# Altium footprint library CONN_TBLOCK_3P81.PcbLib: 55 footprints (part 3 of 4)
Each footprint in its own frame and in the unit in brackets; x right, y up, seen from the top. Pads: shape width x height; smd on the part's side, far side on the other; paste and mask are expansions set on the pad; w line width, h text height; cw(c..) or ccw(c..) is an arc to the next point about the centre after c.
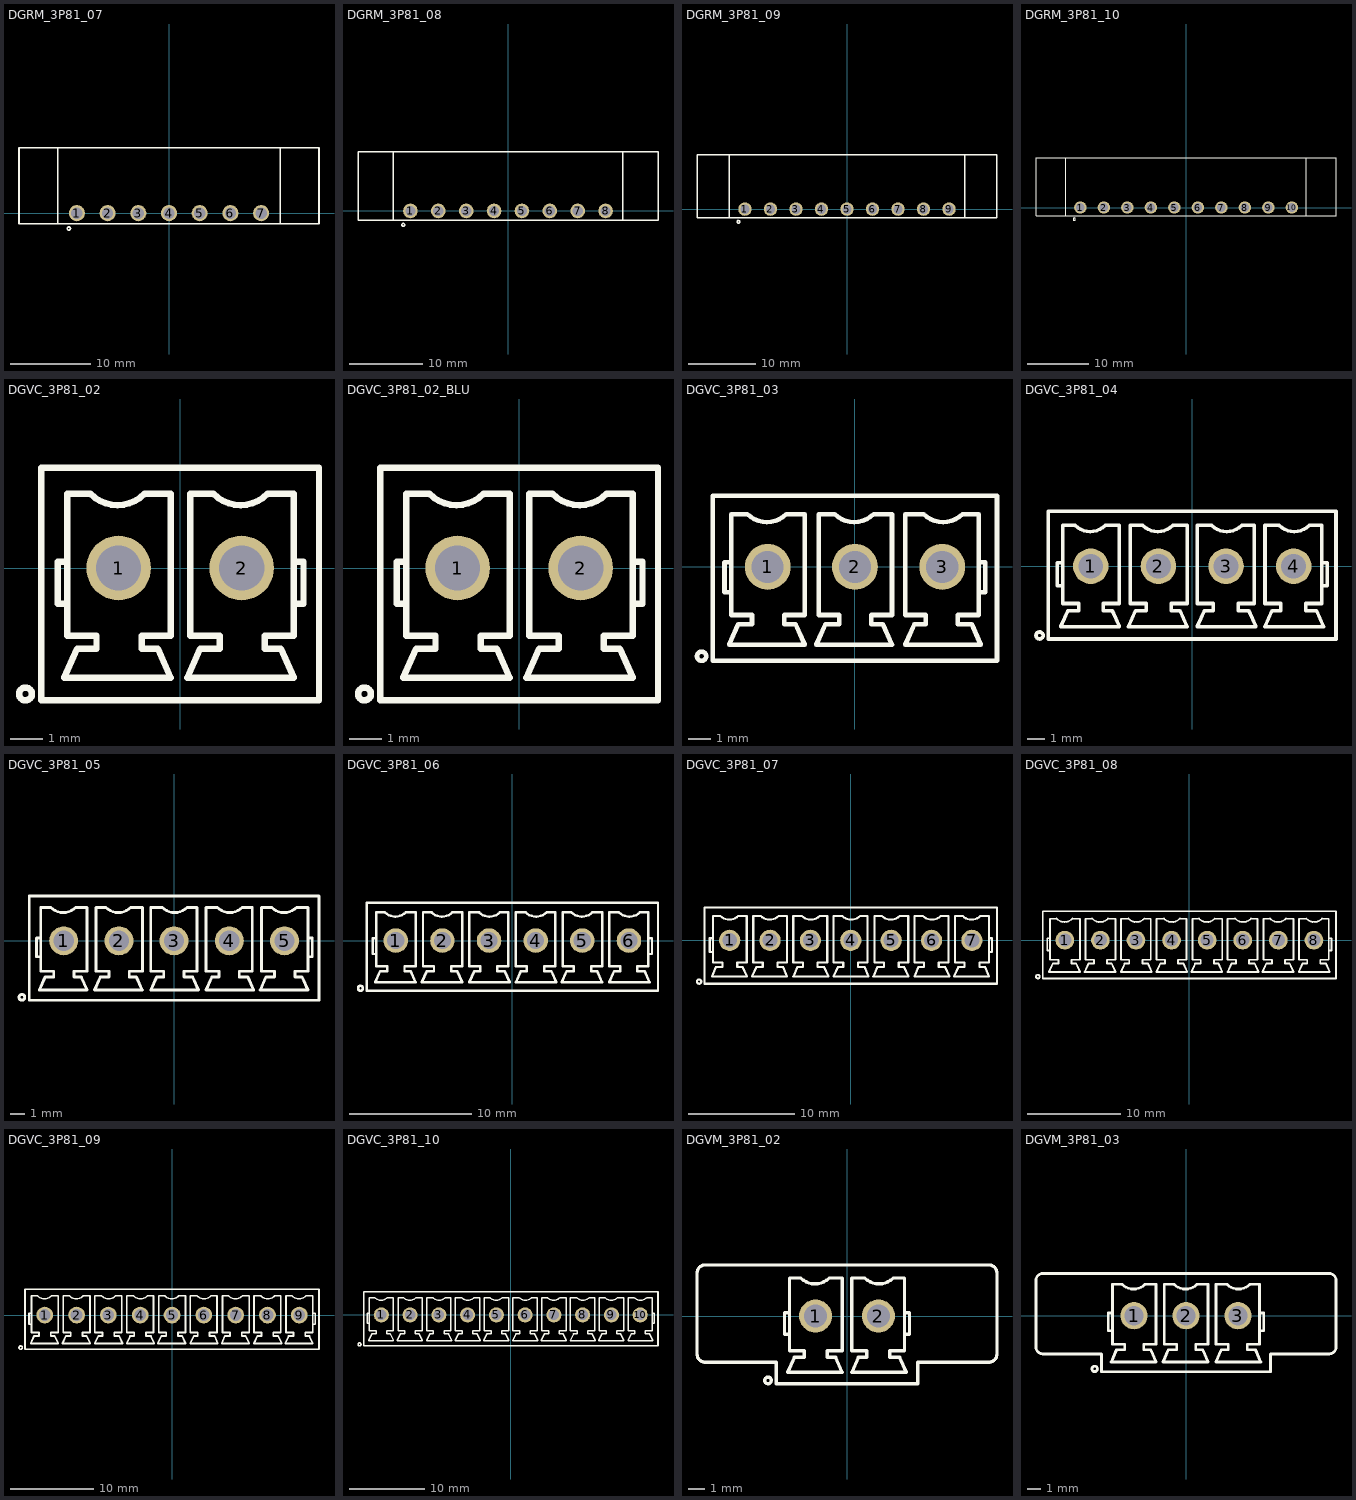
[diagram p2: the footprints below, top view; thin cyan lines are the x and y axes]

## DGRM_3P81_07 [mm] "Terminal Block, 3.81mm pitch, Right Angle, Screw fixed"
pads (7):
  round 2 / inner round 2 / far side oval 2.4x3 hole 1.4: 1(-11.43,0) 2(-7.62,0) 3(-3.81,0) 4(0,0) 5(3.81,0) 6(7.62,0) 7(11.43,0)
Top Overlay:
  circle w0.2: c-12.415,-1.9 r0.2
  lines w0.2: -13.8,-1.3 -13.8,8.1 ; 13.8,-1.3 13.8,8.1 ; -18.6,-1.3 18.6,-1.3 18.6,8.1 -18.6,8.1 -18.6,-1.3
3D body "TBP02R1W-381-07GR.step": height 7.7, standoff -3, extent -18.53,-1.2 18.53,8

## DGRM_3P81_08 [mm] "Terminal Block, 3.81mm pitch, Right Angle, Screw fixed"
pads (8):
  round 2 / inner round 2 / far side oval 2.4x3 hole 1.4: 1(-13.335,0) 2(-9.525,0) 3(-5.715,0) 4(-1.905,0) 5(1.905,0) 6(5.715,0) 7(9.525,0) 8(13.335,0)
Top Overlay:
  circle w0.2: c-14.32,-1.9 r0.2
  lines w0.2: -15.7,-1.3 -15.7,8.1 ; 15.7,-1.3 15.7,8.1 ; -20.5,-1.3 -20.5,8.1 20.5,8.1 20.5,-1.3 -20.5,-1.3
3D body "TBP02R1W-381-08GR.step": height 7.7, standoff -3, extent -20.435,-1.2 20.435,8

## DGRM_3P81_09 [mm] "Terminal Block, 3.81mm pitch, Right Angle, Screw fixed"
pads (9):
  round 2 / inner round 2 / far side oval 2.4x3 hole 1.4: 1(-15.24,0) 2(-11.43,0) 3(-7.62,0) 4(-3.81,0) 5(0,0) 6(3.81,0) 7(7.62,0) 8(11.43,0) 9(15.24,0)
Top Overlay:
  circle w0.2: c-16.225,-1.9 r0.2
  lines w0.2: -17.6,-1.3 -17.6,8.1 ; 17.6,-1.3 17.6,8.1 ; -22.4,-1.3 -22.4,8.1 22.4,8.1 22.4,-1.3 -22.4,-1.3
3D body "TBP02R1W-381-09GR.step": height 7.7, standoff -3, extent -22.34,-1.2 22.34,8

## DGRM_3P81_10 [mm] "Terminal Block, 3.81mm pitch, Right Angle, Screw fixed"
pads (10):
  round 2 / inner round 2 / far side oval 2.4x3 hole 1.4: 1(-17.145,0) 2(-13.335,0) 3(-9.525,0) 4(-5.715,0) 5(-1.905,0) 6(1.905,0) 7(5.715,0) 8(9.525,0) 9(13.335,0) 10(17.145,0)
Top Overlay:
  circle w0.2: c-18.13,-1.9 r0.2
  lines w0.2: -24.33,-1.3 -24.33,8.1 ; -24.3,-1.3 24.3,-1.3 24.3,8.1 -24.3,8.1 ; -19.5,-1.3 -19.5,8.1 ; 19.5,-1.3 19.5,8.1
3D body "TBP02R1W-381-10GR.step": height 7.7, standoff -3, extent -24.245,-1.2 24.245,8

## DGVC_3P81_02 [mm] "Terminal Block, 3.81mm pitch, Straight"
pads (2):
  round 2 / inner round 2 / far side oval 2.4x3 hole 1.4: 1(-1.905,0) 2(1.905,0)
Top Overlay:
  circle w0.2: c-4.79,-3.9 r0.2
  lines w0.2: -3.49,-1.1 -3.79,-1.1 -3.79,0.2 -3.49,0.2 ; 3.52,-1.1 3.82,-1.1 3.82,0.2 3.52,0.2 ; -4.3,-4.1 -4.3,3.1 4.3,3.1 4.3,-4.1 -4.3,-4.1 ; -3.59,-3.4 -3.19,-2.5 -2.59,-2.5 -2.59,-2.1 -3.49,-2.1 -3.49,2.3 -2.789,2.301 ccw(c-1.94,3.15) -1.091,2.301 -0.29,2.3 -0.29,-2.1 -1.19,-2.1 -1.19,-2.5 -0.69,-2.5 -0.29,-3.4 -3.59,-3.4 ; 0.22,-3.4 0.62,-2.5 1.22,-2.5 1.22,-2.1 0.32,-2.1 0.32,2.3 1.021,2.301 ccw(c1.87,3.15) 2.719,2.301 3.52,2.3 3.52,-2.1 2.62,-2.1 2.62,-2.5 3.12,-2.5 3.52,-3.4 0.22,-3.4
3D body "TBP02R2-381-02GR.step": height 9.3, standoff -3.4, extent -4.205,-4.2 4.205,3

## DGVC_3P81_02_BLU [mm] "Terminal Block, 3.81mm pitch, Straight, Blue"
pads (2):
  round 2 / inner round 2 / far side oval 2.4x3 hole 1.4: 1(-1.905,0) 2(1.905,0)
Top Overlay:
  circle w0.2: c-4.79,-3.9 r0.2
  lines w0.2: -3.49,-1.1 -3.79,-1.1 -3.79,0.2 -3.49,0.2 ; 3.52,-1.1 3.82,-1.1 3.82,0.2 3.52,0.2 ; -4.3,-4.1 -4.3,3.1 4.3,3.1 4.3,-4.1 -4.3,-4.1 ; -3.59,-3.4 -3.19,-2.5 -2.59,-2.5 -2.59,-2.1 -3.49,-2.1 -3.49,2.3 -2.789,2.301 ccw(c-1.94,3.15) -1.091,2.301 -0.29,2.3 -0.29,-2.1 -1.19,-2.1 -1.19,-2.5 -0.69,-2.5 -0.29,-3.4 -3.59,-3.4 ; 0.22,-3.4 0.62,-2.5 1.22,-2.5 1.22,-2.1 0.32,-2.1 0.32,2.3 1.021,2.301 ccw(c1.87,3.15) 2.719,2.301 3.52,2.3 3.52,-2.1 2.62,-2.1 2.62,-2.5 3.12,-2.5 3.52,-3.4 0.22,-3.4
3D body "TBP02R2-381-02BE.step": height 9.3, standoff -3.4, extent -4.205,-4.2 4.205,3

## DGVC_3P81_03 [mm] "Terminal Block, 3.81mm pitch, Straight"
pads (3):
  round 2 / inner round 2 / far side oval 2.4x3 hole 1.4: 1(-3.81,0) 2(0,0) 3(3.81,0)
Top Overlay:
  circle w0.2: c-6.695,-3.9 r0.2
  lines w0.2: -5.395,-1.1 -5.695,-1.1 -5.695,0.2 -5.395,0.2 ; 5.395,-1.1 5.695,-1.1 5.695,0.2 5.395,0.2 ; -6.2,-4.1 6.2,-4.1 6.2,3.1 -6.2,3.1 -6.2,-4.1 ; -5.495,-3.4 -2.195,-3.4 -2.595,-2.5 -3.095,-2.5 -3.095,-2.1 -2.195,-2.1 -2.195,2.3 -2.996,2.301 cw(c-3.845,3.15) -4.694,2.301 -5.395,2.3 -5.395,-2.1 -4.495,-2.1 -4.495,-2.5 -5.095,-2.5 -5.495,-3.4 ; -1.685,-3.4 1.615,-3.4 1.215,-2.5 0.715,-2.5 0.715,-2.1 1.615,-2.1 1.615,2.3 0.814,2.301 cw(c-0.035,3.15) -0.884,2.301 -1.585,2.3 -1.585,-2.1 -0.685,-2.1 -0.685,-2.5 -1.285,-2.5 -1.685,-3.4 ; 2.195,-3.4 5.495,-3.4 5.095,-2.5 4.495,-2.5 4.495,-2.1 5.395,-2.1 5.395,2.3 4.694,2.301 cw(c3.845,3.15) 2.996,2.301 2.195,2.3 2.195,-2.1 3.095,-2.1 3.095,-2.5 2.595,-2.5 2.195,-3.4
3D body "TBP02R2-381-03GR.step": height 9.3, standoff -3.4, extent -6.11,-4.2 6.11,3

## DGVC_3P81_04 [mm] "Terminal Block, 3.81mm pitch, Straight"
pads (4):
  round 2 / inner round 2 / far side oval 2.4x3 hole 1.4: 1(-5.715,0) 2(-1.905,0) 3(1.905,0) 4(5.715,0)
Top Overlay:
  circle w0.2: c-8.6,-3.9 r0.2
  lines w0.2: -7.3,-1.1 -7.6,-1.1 -7.6,0.2 -7.3,0.2 ; 7.3,-1.1 7.6,-1.1 7.6,0.2 7.3,0.2 ; -8.1,-4.1 8.1,-4.1 8.1,3.1 -8.1,3.1 -8.1,-4.1 ; -7.4,-3.4 -4.1,-3.4 -4.5,-2.5 -5,-2.5 -5,-2.1 -4.1,-2.1 -4.1,2.3 -4.901,2.301 cw(c-5.75,3.15) -6.599,2.301 -7.3,2.3 -7.3,-2.1 -6.4,-2.1 -6.4,-2.5 -7,-2.5 -7.4,-3.4 ; -3.59,-3.4 -0.29,-3.4 -0.69,-2.5 -1.19,-2.5 -1.19,-2.1 -0.29,-2.1 -0.29,2.3 -1.091,2.301 cw(c-1.94,3.15) -2.789,2.301 -3.49,2.3 -3.49,-2.1 -2.59,-2.1 -2.59,-2.5 -3.19,-2.5 -3.59,-3.4 ; 0.29,-3.4 3.59,-3.4 3.19,-2.5 2.59,-2.5 2.59,-2.1 3.49,-2.1 3.49,2.3 2.789,2.301 cw(c1.94,3.15) 1.091,2.301 0.29,2.3 0.29,-2.1 1.19,-2.1 1.19,-2.5 0.69,-2.5 0.29,-3.4 ; 4.1,-3.4 7.4,-3.4 7,-2.5 6.4,-2.5 6.4,-2.1 7.3,-2.1 7.3,2.3 6.599,2.301 cw(c5.75,3.15) 4.901,2.301 4.1,2.3 4.1,-2.1 5,-2.1 5,-2.5 4.5,-2.5 4.1,-3.4
3D body "TBP02R2-381-04GR.step": height 9.3, standoff -3.4, extent -8.015,-4.2 8.015,3

## DGVC_3P81_05 [mm] "Terminal Block, 3.81mm pitch, Straight"
pads (5):
  round 2 / inner round 2 / far side oval 2.4x3 hole 1.4: 1(-7.62,0) 2(-3.81,0) 3(0,0) 4(3.81,0) 5(7.62,0)
Top Overlay:
  circle w0.2: c-10.505,-3.9 r0.2
  lines w0.2: -9.205,-1.1 -9.505,-1.1 -9.505,0.2 -9.205,0.2 ; 9.235,-1.1 9.535,-1.1 9.535,0.2 9.235,0.2 ; -10,-4.1 -10,3.1 10,3.1 10,-4.1 -10,-4.1 ; -9.305,-3.4 -8.905,-2.5 -8.305,-2.5 -8.305,-2.1 -9.205,-2.1 -9.205,2.3 -8.504,2.301 ccw(c-7.655,3.15) -6.806,2.301 -6.005,2.3 -6.005,-2.1 -6.905,-2.1 -6.905,-2.5 -6.405,-2.5 -6.005,-3.4 -9.305,-3.4 ; -5.495,-3.4 -5.095,-2.5 -4.495,-2.5 -4.495,-2.1 -5.395,-2.1 -5.395,2.3 -4.694,2.301 ccw(c-3.845,3.15) -2.996,2.301 -2.195,2.3 -2.195,-2.1 -3.095,-2.1 -3.095,-2.5 -2.595,-2.5 -2.195,-3.4 -5.495,-3.4 ; -1.615,-3.4 -1.215,-2.5 -0.715,-2.5 -0.715,-2.1 -1.615,-2.1 -1.615,2.3 -0.814,2.301 ccw(c0.035,3.15) 0.884,2.301 1.585,2.3 1.585,-2.1 0.685,-2.1 0.685,-2.5 1.285,-2.5 1.685,-3.4 -1.615,-3.4 ; 2.195,-3.4 2.595,-2.5 3.095,-2.5 3.095,-2.1 2.195,-2.1 2.195,2.3 2.996,2.301 ccw(c3.845,3.15) 4.694,2.301 5.395,2.3 5.395,-2.1 4.495,-2.1 4.495,-2.5 5.095,-2.5 5.495,-3.4 2.195,-3.4 ; 5.935,-3.4 6.335,-2.5 6.935,-2.5 6.935,-2.1 6.035,-2.1 6.035,2.3 6.736,2.301 ccw(c7.585,3.15) 8.434,2.301 9.235,2.3 9.235,-2.1 8.335,-2.1 8.335,-2.5 8.835,-2.5 9.235,-3.4 5.935,-3.4
3D body "TBP02R2-381-05GR.step": height 9.3, standoff -3.4, extent -9.92,-4.2 9.92,3

## DGVC_3P81_06 [mm] "Terminal Block, 3.81mm pitch, Straight"
pads (6):
  round 2 / inner round 2 / far side oval 2.4x3 hole 1.4: 1(-9.525,0) 2(-5.715,0) 3(-1.905,0) 4(1.905,0) 5(5.715,0) 6(9.525,0)
Top Overlay:
  circle w0.2: c-12.41,-3.9 r0.2
  lines w0.2: -11.11,-1.1 -11.41,-1.1 -11.41,0.2 -11.11,0.2 ; 11.11,-1.1 11.41,-1.1 11.41,0.2 11.11,0.2 ; -11.9,-4.1 -11.9,3.1 11.9,3.1 11.9,-4.1 -11.9,-4.1 ; -11.21,-3.4 -10.81,-2.5 -10.21,-2.5 -10.21,-2.1 -11.11,-2.1 -11.11,2.3 -10.409,2.301 ccw(c-9.56,3.15) -8.711,2.301 -7.91,2.3 -7.91,-2.1 -8.81,-2.1 -8.81,-2.5 -8.31,-2.5 -7.91,-3.4 -11.21,-3.4 ; -7.4,-3.4 -7,-2.5 -6.4,-2.5 -6.4,-2.1 -7.3,-2.1 -7.3,2.3 -6.599,2.301 ccw(c-5.75,3.15) -4.901,2.301 -4.1,2.3 -4.1,-2.1 -5,-2.1 -5,-2.5 -4.5,-2.5 -4.1,-3.4 -7.4,-3.4 ; -3.52,-3.4 -3.12,-2.5 -2.62,-2.5 -2.62,-2.1 -3.52,-2.1 -3.52,2.3 -2.719,2.301 ccw(c-1.87,3.15) -1.021,2.301 -0.32,2.3 -0.32,-2.1 -1.22,-2.1 -1.22,-2.5 -0.62,-2.5 -0.22,-3.4 -3.52,-3.4 ; 0.29,-3.4 0.69,-2.5 1.19,-2.5 1.19,-2.1 0.29,-2.1 0.29,2.3 1.091,2.301 ccw(c1.94,3.15) 2.789,2.301 3.49,2.3 3.49,-2.1 2.59,-2.1 2.59,-2.5 3.19,-2.5 3.59,-3.4 0.29,-3.4 ; 4.03,-3.4 4.43,-2.5 5.03,-2.5 5.03,-2.1 4.13,-2.1 4.13,2.3 4.831,2.301 ccw(c5.68,3.15) 6.529,2.301 7.33,2.3 7.33,-2.1 6.43,-2.1 6.43,-2.5 6.93,-2.5 7.33,-3.4 4.03,-3.4 ; 7.91,-3.4 8.31,-2.5 8.81,-2.5 8.81,-2.1 7.91,-2.1 7.91,2.3 8.711,2.301 ccw(c9.56,3.15) 10.409,2.301 11.11,2.3 11.11,-2.1 10.21,-2.1 10.21,-2.5 10.81,-2.5 11.21,-3.4 7.91,-3.4
3D body "TBP02R2-381-06GR.step": height 9.3, standoff -3.4, extent -11.825,-4.2 11.825,3

## DGVC_3P81_07 [mm] "Terminal Block, 3.81mm pitch, Straight"
pads (7):
  round 2 / inner round 2 / far side oval 2.4x3 hole 1.4: 1(-11.43,0) 2(-7.62,0) 3(-3.81,0) 4(0,0) 5(3.81,0) 6(7.62,0) 7(11.43,0)
Top Overlay:
  circle w0.2: c-14.315,-3.9 r0.2
  lines w0.2: -13.015,-1.1 -13.315,-1.1 -13.315,0.2 -13.015,0.2 ; 13.045,-1.1 13.345,-1.1 13.345,0.2 13.045,0.2 ; -13.8,-4.1 13.8,-4.1 13.8,3.1 -13.8,3.1 -13.8,-4.1 ; -13.115,-3.4 -9.815,-3.4 -10.215,-2.5 -10.715,-2.5 -10.715,-2.1 -9.815,-2.1 -9.815,2.3 -10.616,2.301 cw(c-11.465,3.15) -12.314,2.301 -13.015,2.3 -13.015,-2.1 -12.115,-2.1 -12.115,-2.5 -12.715,-2.5 -13.115,-3.4 ; -9.305,-3.4 -6.005,-3.4 -6.405,-2.5 -6.905,-2.5 -6.905,-2.1 -6.005,-2.1 -6.005,2.3 -6.806,2.301 cw(c-7.655,3.15) -8.504,2.301 -9.205,2.3 -9.205,-2.1 -8.305,-2.1 -8.305,-2.5 -8.905,-2.5 -9.305,-3.4 ; -5.425,-3.4 -2.125,-3.4 -2.525,-2.5 -3.125,-2.5 -3.125,-2.1 -2.225,-2.1 -2.225,2.3 -2.926,2.301 cw(c-3.775,3.15) -4.624,2.301 -5.425,2.3 -5.425,-2.1 -4.525,-2.1 -4.525,-2.5 -5.025,-2.5 -5.425,-3.4 ; -1.615,-3.4 1.685,-3.4 1.285,-2.5 0.685,-2.5 0.685,-2.1 1.585,-2.1 1.585,2.3 0.884,2.301 cw(c0.035,3.15) -0.814,2.301 -1.615,2.3 -1.615,-2.1 -0.715,-2.1 -0.715,-2.5 -1.215,-2.5 -1.615,-3.4 ; 2.125,-3.4 5.425,-3.4 5.025,-2.5 4.525,-2.5 4.525,-2.1 5.425,-2.1 5.425,2.3 4.624,2.301 cw(c3.775,3.15) 2.926,2.301 2.225,2.3 2.225,-2.1 3.125,-2.1 3.125,-2.5 2.525,-2.5 2.125,-3.4 ; 6.005,-3.4 9.305,-3.4 8.905,-2.5 8.305,-2.5 8.305,-2.1 9.205,-2.1 9.205,2.3 8.504,2.301 cw(c7.655,3.15) 6.806,2.301 6.005,2.3 6.005,-2.1 6.905,-2.1 6.905,-2.5 6.405,-2.5 6.005,-3.4 ; 9.745,-3.4 13.045,-3.4 12.645,-2.5 12.145,-2.5 12.145,-2.1 13.045,-2.1 13.045,2.3 12.244,2.301 cw(c11.395,3.15) 10.546,2.301 9.845,2.3 9.845,-2.1 10.745,-2.1 10.745,-2.5 10.145,-2.5 9.745,-3.4
3D body "TBP02R2-381-07GR.step": height 9.3, standoff -3.4, extent -13.73,-4.2 13.73,3

## DGVC_3P81_08 [mm] "Terminal Block, 3.81mm pitch, Straight"
pads (8):
  round 2 / inner round 2 / far side oval 2.4x3 hole 1.4: 1(-13.335,0) 2(-9.525,0) 3(-5.715,0) 4(-1.905,0) 5(1.905,0) 6(5.715,0) 7(9.525,0) 8(13.335,0)
Top Overlay:
  circle w0.2: c-16.22,-3.9 r0.2
  lines w0.2: -14.92,-1.1 -15.22,-1.1 -15.22,0.2 -14.92,0.2 ; 14.92,-1.1 15.22,-1.1 15.22,0.2 14.92,0.2 ; -15.7,-4.1 -15.7,3.1 15.7,3.1 15.7,-4.1 -15.7,-4.1 ; -15.02,-3.4 -14.62,-2.5 -14.02,-2.5 -14.02,-2.1 -14.92,-2.1 -14.92,2.3 -14.219,2.301 ccw(c-13.37,3.15) -12.521,2.301 -11.72,2.3 -11.72,-2.1 -12.62,-2.1 -12.62,-2.5 -12.12,-2.5 -11.72,-3.4 -15.02,-3.4 ; -11.21,-3.4 -10.81,-2.5 -10.21,-2.5 -10.21,-2.1 -11.11,-2.1 -11.11,2.3 -10.409,2.301 ccw(c-9.56,3.15) -8.711,2.301 -7.91,2.3 -7.91,-2.1 -8.81,-2.1 -8.81,-2.5 -8.31,-2.5 -7.91,-3.4 -11.21,-3.4 ; -7.33,-3.4 -6.93,-2.5 -6.43,-2.5 -6.43,-2.1 -7.33,-2.1 -7.33,2.3 -6.529,2.301 ccw(c-5.68,3.15) -4.831,2.301 -4.13,2.3 -4.13,-2.1 -5.03,-2.1 -5.03,-2.5 -4.43,-2.5 -4.03,-3.4 -7.33,-3.4 ; -3.52,-3.4 -3.12,-2.5 -2.62,-2.5 -2.62,-2.1 -3.52,-2.1 -3.52,2.3 -2.719,2.301 ccw(c-1.87,3.15) -1.021,2.301 -0.32,2.3 -0.32,-2.1 -1.22,-2.1 -1.22,-2.5 -0.62,-2.5 -0.22,-3.4 -3.52,-3.4 ; 0.22,-3.4 0.62,-2.5 1.22,-2.5 1.22,-2.1 0.32,-2.1 0.32,2.3 1.021,2.301 ccw(c1.87,3.15) 2.719,2.301 3.52,2.3 3.52,-2.1 2.62,-2.1 2.62,-2.5 3.12,-2.5 3.52,-3.4 0.22,-3.4 ; 4.1,-3.4 4.5,-2.5 5,-2.5 5,-2.1 4.1,-2.1 4.1,2.3 4.901,2.301 ccw(c5.75,3.15) 6.599,2.301 7.3,2.3 7.3,-2.1 6.4,-2.1 6.4,-2.5 7,-2.5 7.4,-3.4 4.1,-3.4 ; 7.84,-3.4 8.24,-2.5 8.84,-2.5 8.84,-2.1 7.94,-2.1 7.94,2.3 8.641,2.301 ccw(c9.49,3.15) 10.339,2.301 11.14,2.3 11.14,-2.1 10.24,-2.1 10.24,-2.5 10.74,-2.5 11.14,-3.4 7.84,-3.4 ; 11.72,-3.4 12.12,-2.5 12.62,-2.5 12.62,-2.1 11.72,-2.1 11.72,2.3 12.521,2.301 ccw(c13.37,3.15) 14.219,2.301 14.92,2.3 14.92,-2.1 14.02,-2.1 14.02,-2.5 14.62,-2.5 15.02,-3.4 11.72,-3.4
3D body "TBP02R2-381-08GR.step": height 9.3, standoff -3.4, extent -15.635,-4.2 15.635,3

## DGVC_3P81_09 [mm] "Terminal Block, 3.81mm pitch, Straight"
pads (9):
  round 2 / inner round 2 / far side oval 2.4x3 hole 1.4: 1(-15.24,0) 2(-11.43,0) 3(-7.62,0) 4(-3.81,0) 5(0,0) 6(3.81,0) 7(7.62,0) 8(11.43,0) 9(15.24,0)
Top Overlay:
  circle w0.2: c-18.125,-3.9 r0.2
  lines w0.2: -16.825,-1.1 -17.125,-1.1 -17.125,0.2 -16.825,0.2 ; 16.855,-1.1 17.155,-1.1 17.155,0.2 16.855,0.2 ; -17.6,-4.1 17.6,-4.1 17.6,3.1 -17.6,3.1 -17.6,-4.1 ; -16.925,-3.4 -13.625,-3.4 -14.025,-2.5 -14.525,-2.5 -14.525,-2.1 -13.625,-2.1 -13.625,2.3 -14.426,2.301 cw(c-15.275,3.15) -16.124,2.301 -16.825,2.3 -16.825,-2.1 -15.925,-2.1 -15.925,-2.5 -16.525,-2.5 -16.925,-3.4 ; -13.115,-3.4 -9.815,-3.4 -10.215,-2.5 -10.715,-2.5 -10.715,-2.1 -9.815,-2.1 -9.815,2.3 -10.616,2.301 cw(c-11.465,3.15) -12.314,2.301 -13.015,2.3 -13.015,-2.1 -12.115,-2.1 -12.115,-2.5 -12.715,-2.5 -13.115,-3.4 ; -9.235,-3.4 -5.935,-3.4 -6.335,-2.5 -6.935,-2.5 -6.935,-2.1 -6.035,-2.1 -6.035,2.3 -6.736,2.301 cw(c-7.585,3.15) -8.434,2.301 -9.235,2.3 -9.235,-2.1 -8.335,-2.1 -8.335,-2.5 -8.835,-2.5 -9.235,-3.4 ; -5.425,-3.4 -2.125,-3.4 -2.525,-2.5 -3.125,-2.5 -3.125,-2.1 -2.225,-2.1 -2.225,2.3 -2.926,2.301 cw(c-3.775,3.15) -4.624,2.301 -5.425,2.3 -5.425,-2.1 -4.525,-2.1 -4.525,-2.5 -5.025,-2.5 -5.425,-3.4 ; -1.685,-3.4 1.615,-3.4 1.215,-2.5 0.715,-2.5 0.715,-2.1 1.615,-2.1 1.615,2.3 0.814,2.301 cw(c-0.035,3.15) -0.884,2.301 -1.585,2.3 -1.585,-2.1 -0.685,-2.1 -0.685,-2.5 -1.285,-2.5 -1.685,-3.4 ; 2.195,-3.4 5.495,-3.4 5.095,-2.5 4.495,-2.5 4.495,-2.1 5.395,-2.1 5.395,2.3 4.694,2.301 cw(c3.845,3.15) 2.996,2.301 2.195,2.3 2.195,-2.1 3.095,-2.1 3.095,-2.5 2.595,-2.5 2.195,-3.4 ; 5.935,-3.4 9.235,-3.4 8.835,-2.5 8.335,-2.5 8.335,-2.1 9.235,-2.1 9.235,2.3 8.434,2.301 cw(c7.585,3.15) 6.736,2.301 6.035,2.3 6.035,-2.1 6.935,-2.1 6.935,-2.5 6.335,-2.5 5.935,-3.4 ; 9.815,-3.4 13.115,-3.4 12.715,-2.5 12.115,-2.5 12.115,-2.1 13.015,-2.1 13.015,2.3 12.314,2.301 cw(c11.465,3.15) 10.616,2.301 9.815,2.3 9.815,-2.1 10.715,-2.1 10.715,-2.5 10.215,-2.5 9.815,-3.4 ; 13.555,-3.4 16.855,-3.4 16.455,-2.5 15.955,-2.5 15.955,-2.1 16.855,-2.1 16.855,2.3 16.054,2.301 cw(c15.205,3.15) 14.356,2.301 13.655,2.3 13.655,-2.1 14.555,-2.1 14.555,-2.5 13.955,-2.5 13.555,-3.4
3D body "TBP02R2-381-09GR.step": height 9.3, standoff -3.4, extent -17.54,-4.2 17.54,3

## DGVC_3P81_10 [mm] "Terminal Block, 3.81mm pitch, Straight"
pads (10):
  round 2 / inner round 2 / far side oval 2.4x3 hole 1.4: 1(-17.145,0) 2(-13.335,0) 3(-9.525,0) 4(-5.715,0) 5(-1.905,0) 6(1.905,0) 7(5.715,0) 8(9.525,0) 9(13.335,0) 10(17.145,0)
Top Overlay:
  drawing of 151 lines, arcs and shapes, not listed
3D body "TBP02R2-381-10GR.step": height 9.3, standoff -3.4, extent -19.445,-4.2 19.445,3

## DGVM_3P81_02 [mm] "Terminal Block, 3.81mm pitch, Straight, Screw fixed"
pads (2):
  round 2 / inner round 2 / far side oval 2.4x3 hole 1.4: 1(-1.905,0) 2(1.905,0)
Top Overlay:
  circle w0.2: c-4.79,-3.9 r0.2
  lines w0.2: -3.49,-1.1 -3.79,-1.1 -3.79,0.2 -3.49,0.2 ; 3.49,-1.1 3.79,-1.1 3.79,0.2 3.49,0.2 ; -9.09,-2.3 ccw(c-8.59,-2.3) -8.59,-2.8 -4.29,-2.8 -4.29,-4.1 4.29,-4.1 4.29,-2.8 8.59,-2.8 ccw(c8.59,-2.3) 9.09,-2.3 9.09,2.6 ccw(c8.59,2.6) 8.59,3.1 -8.59,3.1 ccw(c-8.59,2.6) -9.09,2.6 -9.09,-2.3 ; -3.59,-3.4 -3.19,-2.5 -2.59,-2.5 -2.59,-2.1 -3.49,-2.1 -3.49,2.3 -2.789,2.301 ccw(c-1.94,3.15) -1.091,2.301 -0.29,2.3 -0.29,-2.1 -1.19,-2.1 -1.19,-2.5 -0.69,-2.5 -0.29,-3.4 -3.59,-3.4 ; 0.29,-3.4 0.69,-2.5 1.19,-2.5 1.19,-2.1 0.29,-2.1 0.29,2.3 1.091,2.301 ccw(c1.94,3.15) 2.789,2.301 3.49,2.3 3.49,-2.1 2.59,-2.1 2.59,-2.5 3.19,-2.5 3.59,-3.4 0.29,-3.4
3D body "TBP02R2W-381-02GR.step": height 9.3, standoff -3.4, extent -9.005,-4.2 9.005,3

## DGVM_3P81_03 [mm] "Terminal Block, 3.81mm pitch, Straight, Screw fixed"
pads (3):
  round 2 / inner round 2 / far side oval 2.4x3 hole 1.4: 1(-3.81,0) 2(0,0) 3(3.81,0)
Top Overlay:
  circle w0.2: c-6.695,-3.9 r0.2
  lines w0.2: -5.395,-1.1 -5.695,-1.1 -5.695,0.2 -5.395,0.2 ; 5.395,-1.1 5.695,-1.1 5.695,0.2 5.395,0.2 ; -10.995,-2.3 ccw(c-10.495,-2.3) -10.495,-2.8 -6.195,-2.8 -6.195,-4.1 6.195,-4.1 6.195,-2.8 10.495,-2.8 ccw(c10.495,-2.3) 10.995,-2.3 10.995,2.6 ccw(c10.495,2.6) 10.495,3.1 -10.495,3.1 ccw(c-10.495,2.6) -10.995,2.6 -10.995,-2.3 ; -5.495,-3.4 -2.195,-3.4 -2.595,-2.5 -3.095,-2.5 -3.095,-2.1 -2.195,-2.1 -2.195,2.3 -2.996,2.301 cw(c-3.845,3.15) -4.694,2.301 -5.395,2.3 -5.395,-2.1 -4.495,-2.1 -4.495,-2.5 -5.095,-2.5 -5.495,-3.4 ; -1.685,-3.4 1.615,-3.4 1.215,-2.5 0.715,-2.5 0.715,-2.1 1.615,-2.1 1.615,2.3 0.814,2.301 cw(c-0.035,3.15) -0.884,2.301 -1.585,2.3 -1.585,-2.1 -0.685,-2.1 -0.685,-2.5 -1.285,-2.5 -1.685,-3.4 ; 2.195,-3.4 5.495,-3.4 5.095,-2.5 4.495,-2.5 4.495,-2.1 5.395,-2.1 5.395,2.3 4.694,2.301 cw(c3.845,3.15) 2.996,2.301 2.195,2.3 2.195,-2.1 3.095,-2.1 3.095,-2.5 2.595,-2.5 2.195,-3.4
3D body "TBP02R2W-381-03GR.step": height 9.3, standoff -3.4, extent -10.91,-4.2 10.91,3